# Altium footprint library Miscellaneous.PcbLib: 68 footprints (part 5 of 5)
Each footprint in its own frame and in the unit in brackets; x right, y up, seen from the top. Pads: shape width x height; smd on the part's side, far side on the other; paste and mask are expansions set on the pad; w line width, h text height; cw(c..) or ccw(c..) is an arc to the next point about the centre after c.
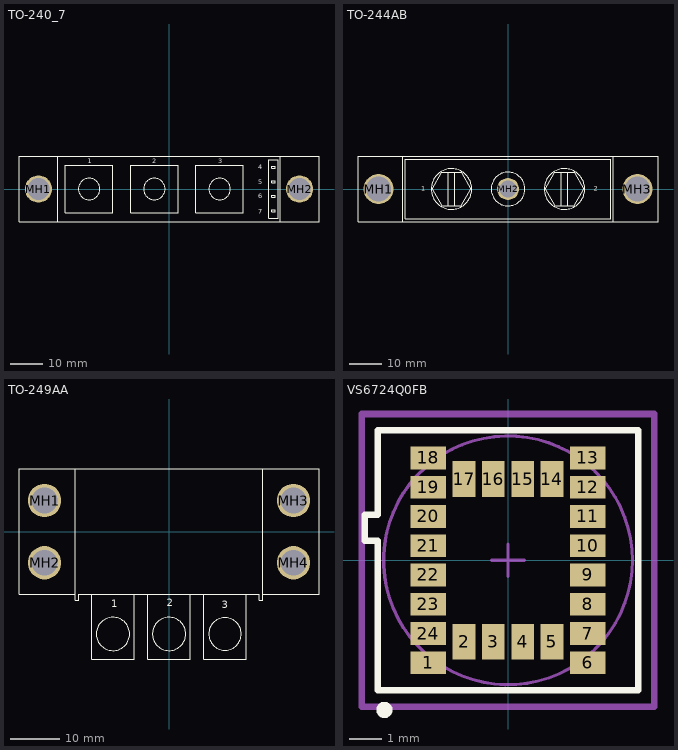
[diagram p4: the footprints below, top view; thin cyan lines are the x and y axes]

## TO-240_7 [mm] "Power Module/TO-240-AA; 3 Screw & 4 Quick-Connect Terminals; Body 92 x 20 x 37 mm (LxWxH)"
height 37
pads (2):
  round 8.3 hole 6.8: MH1(-40.005,0) MH2(40.005,0)
Top Overlay:
  circle w0.2: c15.526,0 r3.3
  circle w0.2: c-4.474,0 r3.3
  circle w0.2: c-24.474,0 r3.3
  lines w0.2: -34.108,-9.995 -34.108,9.995 ; 34.108,-9.995 34.108,9.995 ; -45.974,-9.995 -45.974,9.995 45.974,9.995 45.974,-9.995 -45.974,-9.995 ; -31.774,-7.3 -17.174,-7.3 -17.174,7.3 -31.774,7.3 -31.774,-7.3 ; -11.774,-7.3 -11.774,7.3 2.826,7.3 2.826,-7.3 -11.774,-7.3 ; 8.226,-7.3 8.226,7.3 22.826,7.3 22.826,-7.3 8.226,-7.3 ; 30.526,-9 30.526,9 33.526,9 33.526,-9 30.526,-9 ; 31.526,-6.906 32.526,-6.906 32.526,-6.406 31.526,-6.406 31.526,-6.906 ; 31.526,-2.469 32.526,-2.469 32.526,-1.969 31.526,-1.969 31.526,-2.469 ; 31.526,1.969 32.526,1.969 32.526,2.469 31.526,2.469 31.526,1.969 ; 31.526,6.406 32.526,6.406 32.526,6.906 31.526,6.906 31.526,6.406
  text "4" at 27.349,6.104 h1.5
  text "7" at 27.349,-7.633 h1.5
  text "6" at 27.291,-2.802 h1.5
  text "5" at 27.349,1.447 h1.5
  text "2" at -5.113,7.876 h1.5
  text "3" at 15.084,7.876 h1.5
  text "1" at -24.906,7.962 h1.5

## TO-244AB [mm] "Rectangular Flange Mount/TO-244-AB; 2 Screw Terminals; Body 92.71 x 20.32 x 23.55 mm (LxWxH max)"
height 23.55
pads (3):
  round 9.3 hole 7.8: MH1(-40.005,0) MH3(40.005,0)
  round 6.8 hole 5.3: MH2(0,0)
Top Overlay:
  circle w0.2: c0,0 r5.205
  circle w0.2: c17.462,0 r6.26
  circle w0.2: c-17.462,0 r6.26
  lines w0.2: -32.5,-10.16 -32.5,10.16 ; -20.467,-5.152 -23.472,0 ; -18.465,-5.205 -18.465,5.205 ; -16.46,-5.205 -16.46,5.205 ; 16.46,-5.205 16.46,5.205 ; 18.465,-5.205 18.465,5.205 ; 32.5,-10.16 32.5,10.16 ; -23.472,0 -20.467,5.205 -14.458,5.205 -11.453,0 -14.458,-5.205 -20.467,-5.205 -23.472,0 ; -46.355,-10.16 -46.355,10.16 46.355,10.16 46.355,-10.16 -46.355,-10.16 ; -31.75,-9.16 31.75,-9.16 31.75,9.16 -31.75,9.16 -31.75,-9.16 ; 11.453,0 14.458,5.205 20.467,5.205 23.472,0 20.467,-5.205 14.458,-5.205 11.453,0
  text "2" at 26.554,-0.54 h1.5
  text "1" at -26.82,-0.54 h1.5

## TO-249AA [mm] "Rectangular Flange Mount/TO-249-AA; 3 Terminals; Body 61.21 x 25.65 x 10.16 mm  (LxWxH max)"
height 10.16
pads (4):
  round 6.8 hole 5.3: MH1(-25.4,6.35) MH2(-25.4,-6.35) MH3(25.4,6.35) MH4(25.4,-6.35)
Top Overlay:
  circle w0.2: c11.43,-20.877 r3.318
  circle w0.2: c0,-20.877 r3.4
  circle w0.2: c-11.43,-20.877 r3.4
  lines w0.2: -19.177,12.827 -19.177,-12.827 ; -15.75,-12.827 -15.75,-26.037 -7.11,-26.037 -7.11,-12.827 ; -4.32,-12.827 -4.32,-26.037 4.32,-26.037 4.32,-12.827 ; 7.11,-12.827 7.11,-26.037 15.75,-26.037 15.75,-12.827 ; 19.177,12.827 19.177,-12.827 ; -19.177,-12.827 -19.177,-13.967 -18.427,-13.967 -18.427,-12.827 18.427,-12.827 18.427,-13.967 19.177,-13.967 19.177,-12.827 ; -19.177,-12.827 -30.607,-12.827 -30.607,12.827 30.607,12.827 30.607,-12.827 19.177,-12.827
  text "3" at 10.799,-15.586 h1.5
  text "2" at -0.497,-15.276 h1.5
  text "1" at -11.794,-15.431 h1.5

## VS6724Q0FB [mm] "VS6724 Camera socket module"
height 5.65
pads (24):
  rect 1.1x0.7 smd: 1(-2.45,-3.15) 6(2.45,-3.15) 7(2.45,-2.25) 8(2.45,-1.35) 9(2.45,-0.45) 10(2.45,0.45) 11(2.45,1.35) 12(2.45,2.25) 13(2.45,3.15) 18(-2.45,3.15) 19(-2.45,2.25) 20(-2.45,1.35) 21(-2.45,0.45) 22(-2.45,-0.45) 23(-2.45,-1.35) 24(-2.45,-2.25)
  rect 0.7x1.1 smd: 2(-1.35,-2.5) 3(-0.45,-2.5) 4(0.45,-2.5) 5(1.35,-2.5) 14(1.35,2.5) 15(0.45,2.5) 16(-0.45,2.5) 17(-1.35,2.5)
Top Overlay:
  circle w0.25: c-3.8,-4.6 r0.125
  lines w0.2: -4.4,0.6 -4.4,1.4 -4,1.4 -4,4 4,4 4,-4 -4,-4 -4,0.6 -4.4,0.6
Mechanical 13:
  circle w0.1: c0,0 r3.825
  lines w0.1: -4.4,0.6 -4,0.6 -4,-4 4,-4 4,4 -4,4 -4,1.4 -4.4,1.4 -4.4,0.6
Mechanical 15:
  lines w0.1: -0.5,0 0.5,0 ; 0,-0.5 0,0.5
  lines w0.2: -4.5,-4.5 -4.5,4.5 4.5,4.5 4.5,-4.5 -4.5,-4.5
3D body: height 5.65, standoff 0, extent -4.399,-3.999 3.999,3.999